# Altium footprint library Molex Footprints.PcbLib: 498 footprints (part 28 of 32)
Each footprint in its own frame and in the unit in brackets; x right, y up, seen from the top. Pads: shape width x height; smd on the part's side, far side on the other; paste and mask are expansions set on the pad; w line width, h text height; cw(c..) or ccw(c..) is an arc to the next point about the centre after c.
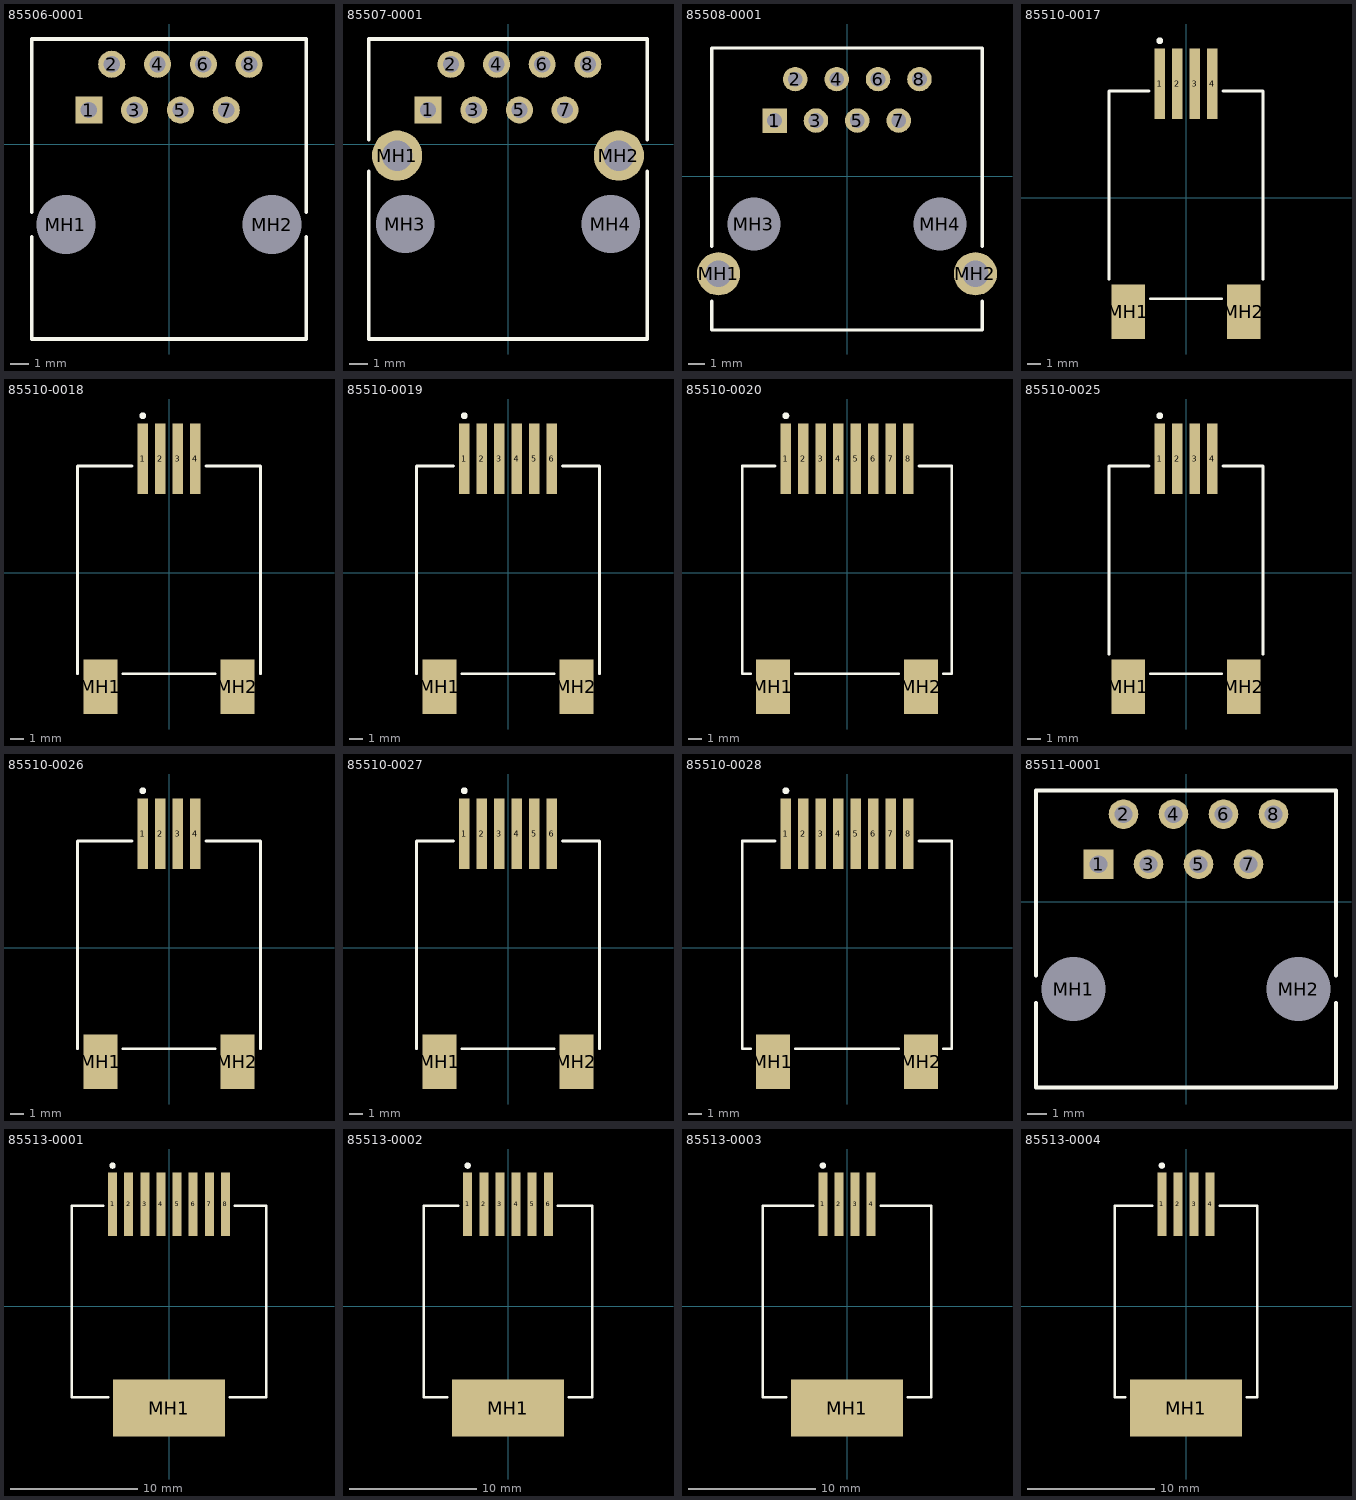
[diagram p27: the footprints below, top view; thin cyan lines are the x and y axes]

## 85506-0001 [mm] "Connector; PCB Jack, Thru-Hole; 1-Port, 8 Positions, 8 Loaded; Unshielded without Lightpipes; Vertical"
height 16.25
pads (10):
  rect 1.5x1.5 hole 0.9: 1(-4.445,1.905)
  round 1.5 hole 0.9: 2(-3.175,4.445) 3(-1.905,1.905) 4(-0.635,4.445) 5(0.635,1.905) 6(1.905,4.445) 7(3.175,1.905) 8(4.445,4.445)
  round 2.95 hole 3.25 unplated: MH1(-5.715,-4.445) MH2(5.715,-4.445)
Top Overlay:
  lines w0.2: -7.62,-5.132 -7.62,-10.795 7.62,-10.795 7.62,-5.132 ; -7.62,-3.758 -7.62,5.845 7.62,5.845 7.62,-3.758

## 85507-0001 [mm] "Connector; PCB Jack, Thru-Hole; 1-Port, 8 Positions, 8 Loaded; Shielded without Lightpipes; Vertical"
height 16.25
pads (12):
  rect 1.5x1.5 hole 0.9: 1(-4.445,1.905)
  round 1.5 hole 0.9: 2(-3.175,4.445) 3(-1.905,1.905) 4(-0.635,4.445) 5(0.635,1.905) 6(1.905,4.445) 7(3.175,1.905) 8(4.445,4.445)
  round 2.8 hole 1.7: MH1(-6.175,-0.635) MH2(6.175,-0.635)
  round 2.95 hole 3.25 unplated: MH3(-5.715,-4.445) MH4(5.715,-4.445)
Top Overlay:
  lines w0.2: -7.75,-1.506 -7.75,-10.845 7.75,-10.845 7.75,-1.506 ; -7.75,0.236 -7.75,5.855 7.75,5.855 7.75,0.236

## 85508-0001 [mm] "Connector; PCB Jack, Thru-Hole; 1-Port, 8 Positions, 8 Loaded; Shielded without Lightpipes; Vertical"
height 16.5
pads (12):
  rect 1.5x1.5 hole 0.9: 1(-4.445,3.43)
  round 1.5 hole 0.9: 2(-3.175,5.97) 3(-1.905,3.43) 4(-0.635,5.97) 5(0.635,3.43) 6(1.905,5.97) 7(3.175,3.43) 8(4.445,5.97)
  round 2.65 hole 1.6: MH1(-7.875,-5.97) MH2(7.875,-5.97)
  round 2.95 hole 3.25 unplated: MH3(-5.715,-2.92) MH4(5.715,-2.92)
Top Overlay:
  lines w0.2: -8.3,-7.642 -8.3,-9.42 8.3,-9.42 8.3,-7.642 ; -8.3,-4.298 -8.3,7.88 8.3,7.88 8.3,-4.298

## 85510-0017 [mm] "Connector; PCB Jack, SM; 1-Port, 4 Positions, 4 Loaded; Unshielded without Lightpipes; Vertical"
height 15.7
pads (6):
  rect 0.76x5.15 smd: 1(-1.905,8.287) 2(-0.635,8.287) 3(0.635,8.287) 4(1.905,8.287)
  rect 2.45x3.95 smd: MH1(-4.2,-8.287) MH2(4.2,-8.287)
Top Overlay:
  circle w0.25: c-1.905,11.412 r0.125
  lines w0.2: -5.6,-5.913 -5.6,7.762 -2.685,7.762 ; -2.575,-7.338 2.575,-7.338 ; 2.685,7.762 5.6,7.762 5.6,-5.913

## 85510-0018 [mm] "Connector; PCB Jack, SM; 1-Port, 6 Positions, 4 Loaded; Unshielded without Lightpipes; Vertical"
height 15.7
pads (6):
  rect 0.76x5.15 smd: 1(-1.905,8.287) 2(-0.635,8.287) 3(0.635,8.287) 4(1.905,8.287)
  rect 2.45x3.95 smd: MH1(-4.975,-8.287) MH2(4.975,-8.287)
Top Overlay:
  circle w0.25: c-1.905,11.412 r0.125
  lines w0.2: -6.65,-7.338 -6.65,7.762 -2.685,7.762 ; -3.35,-7.338 3.35,-7.338 ; 2.685,7.762 6.65,7.762 6.65,-7.338

## 85510-0019 [mm] "Connector; PCB Jack, SM; 1-Port, 6 Positions, 6 Loaded; Unshielded without Lightpipes; Vertical"
height 15.7
pads (8):
  rect 0.76x5.15 smd: 1(-3.175,8.287) 2(-1.905,8.287) 3(-0.635,8.287) 4(0.635,8.287) 5(1.905,8.287) 6(3.175,8.287)
  rect 2.45x3.95 smd: MH1(-4.975,-8.287) MH2(4.975,-8.287)
Top Overlay:
  circle w0.25: c-3.175,11.412 r0.125
  lines w0.2: -6.65,-7.338 -6.65,7.762 -3.955,7.762 ; -3.35,-7.338 3.35,-7.338 ; 3.955,7.762 6.65,7.762 6.65,-7.338

## 85510-0020 [mm] "Connector; PCB Jack, SM; 1-Port, 8 Positions, 8 Loaded; Unshielded without Lightpipes; Vertical"
height 15.7
pads (10):
  rect 0.76x5.15 smd: 1(-4.445,8.287) 2(-3.175,8.287) 3(-1.905,8.287) 4(-0.635,8.287) 5(0.635,8.287) 6(1.905,8.287) 7(3.175,8.287) 8(4.445,8.287)
  rect 2.45x3.95 smd: MH1(-5.385,-8.287) MH2(5.385,-8.287)
Top Overlay:
  circle w0.25: c-4.445,11.412 r0.125
  lines w0.2: -7.01,-7.338 -7.62,-7.338 -7.62,7.762 -5.225,7.762 ; -3.76,-7.338 3.76,-7.338 ; 5.225,7.762 7.62,7.762 7.62,-7.338 7.01,-7.338

## 85510-0025 [mm] "Connector; PCB Jack, SM; 1-Port, 4 Positions, 4 Loaded; Unshielded without Lightpipes; Vertical"
height 15.7
pads (6):
  rect 0.76x5.15 smd: 1(-1.905,8.287) 2(-0.635,8.287) 3(0.635,8.287) 4(1.905,8.287)
  rect 2.45x3.95 smd: MH1(-4.2,-8.287) MH2(4.2,-8.287)
Top Overlay:
  circle w0.25: c-1.905,11.412 r0.125
  lines w0.2: -5.6,-5.913 -5.6,7.762 -2.685,7.762 ; -2.575,-7.338 2.575,-7.338 ; 2.685,7.762 5.6,7.762 5.6,-5.913

## 85510-0026 [mm] "Connector; PCB Jack, SM; 1-Port, 6 Positions, 4 Loaded; Unshielded without Lightpipes; Vertical"
height 15.7
pads (6):
  rect 0.76x5.15 smd: 1(-1.905,8.287) 2(-0.635,8.287) 3(0.635,8.287) 4(1.905,8.287)
  rect 2.45x3.95 smd: MH1(-4.975,-8.287) MH2(4.975,-8.287)
Top Overlay:
  circle w0.25: c-1.905,11.412 r0.125
  lines w0.2: -6.65,-7.338 -6.65,7.762 -2.685,7.762 ; -3.35,-7.338 3.35,-7.338 ; 2.685,7.762 6.65,7.762 6.65,-7.338

## 85510-0027 [mm] "Connector; PCB Jack, SM; 1-Port, 6 Positions, 6 Loaded; Unshielded without Lightpipes; Vertical"
height 15.7
pads (8):
  rect 0.76x5.15 smd: 1(-3.175,8.287) 2(-1.905,8.287) 3(-0.635,8.287) 4(0.635,8.287) 5(1.905,8.287) 6(3.175,8.287)
  rect 2.45x3.95 smd: MH1(-4.975,-8.287) MH2(4.975,-8.287)
Top Overlay:
  circle w0.25: c-3.175,11.412 r0.125
  lines w0.2: -6.65,-7.338 -6.65,7.762 -3.955,7.762 ; -3.35,-7.338 3.35,-7.338 ; 3.955,7.762 6.65,7.762 6.65,-7.338

## 85510-0028 [mm] "Connector; PCB Jack, SM; 1-Port, 8 Positions, 8 Loaded; Unshielded without Lightpipes; Vertical"
height 15.7
pads (10):
  rect 0.76x5.15 smd: 1(-4.445,8.287) 2(-3.175,8.287) 3(-1.905,8.287) 4(-0.635,8.287) 5(0.635,8.287) 6(1.905,8.287) 7(3.175,8.287) 8(4.445,8.287)
  rect 2.45x3.95 smd: MH1(-5.385,-8.287) MH2(5.385,-8.287)
Top Overlay:
  circle w0.25: c-4.445,11.412 r0.125
  lines w0.2: -7.01,-7.338 -7.62,-7.338 -7.62,7.762 -5.225,7.762 ; -3.76,-7.338 3.76,-7.338 ; 5.225,7.762 7.62,7.762 7.62,-7.338 7.01,-7.338

## 85511-0001 [mm] "Connector; PCB Jack, Thru-Hole; 1-Port, 8 Positions, 8 Loaded; Unshielded without Lightpipes; Vertical"
height 15.7
pads (10):
  rect 1.5x1.5 hole 0.9: 1(-4.445,1.905)
  round 1.5 hole 0.9: 2(-3.175,4.445) 3(-1.905,1.905) 4(-0.635,4.445) 5(0.635,1.905) 6(1.905,4.445) 7(3.175,1.905) 8(4.445,4.445)
  round 2.95 hole 3.25 unplated: MH1(-5.715,-4.445) MH2(5.715,-4.445)
Top Overlay:
  lines w0.2: -7.62,-5.132 -7.62,-9.445 7.62,-9.445 7.62,-5.132 ; -7.62,-3.758 -7.62,5.655 7.62,5.655 7.62,-3.758

## 85513-0001 [mm] "Connector; PCB Jack, SM; 1-Port, 8 Positions, 8 Loaded; Unshielded without Lightpipes; Vertical"
height 12.7
pads (9):
  rect 0.7x5 smd: 1(-4.445,8.025) 2(-3.175,8.025) 3(-1.905,8.025) 4(-0.635,8.025) 5(0.635,8.025) 6(1.905,8.025) 7(3.175,8.025) 8(4.445,8.025)
  rect 8.8x4.5 smd: MH1(0,-8.025)
Top Overlay:
  circle w0.25: c-4.445,11.075 r0.125
  lines w0.2: -5.162,7.925 -7.65,7.925 -7.65,-7.175 -4.8,-7.175 ; 4.8,-7.175 7.65,-7.175 7.65,7.925 5.162,7.925

## 85513-0002 [mm] "Connector; PCB Jack, SM; 1-Port, 6 Positions, 6 Loaded; Unshielded without Lightpipes; Vertical"
height 12.7
pads (7):
  rect 0.7x5 smd: 1(-3.175,8.025) 2(-1.905,8.025) 3(-0.635,8.025) 4(0.635,8.025) 5(1.905,8.025) 6(3.175,8.025)
  rect 8.8x4.5 smd: MH1(0,-8.025)
Top Overlay:
  circle w0.25: c-3.175,11.075 r0.125
  lines w0.2: -4.8,-7.175 -6.65,-7.175 -6.65,7.925 -3.925,7.925 ; 3.925,7.925 6.65,7.925 6.65,-7.175 4.8,-7.175

## 85513-0003 [mm] "Connector; PCB Jack, SM; 1-Port, 6 Positions, 4 Loaded; Unshielded without Lightpipes; Vertical"
height 12.7
pads (5):
  rect 0.7x5 smd: 1(-1.905,8.025) 2(-0.635,8.025) 3(0.635,8.025) 4(1.905,8.025)
  rect 8.8x4.5 smd: MH1(0,-8.025)
Top Overlay:
  circle w0.25: c-1.905,11.075 r0.125
  lines w0.2: -4.8,-7.175 -6.65,-7.175 -6.65,7.925 -2.655,7.925 ; 2.655,7.925 6.65,7.925 6.65,-7.175 4.8,-7.175

## 85513-0004 [mm] "Connector; PCB Jack, SM; 1-Port, 4 Positions, 4 Loaded; Unshielded without Lightpipes; Vertical"
height 12.7
pads (5):
  rect 0.7x5 smd: 1(-1.905,8.025) 2(-0.635,8.025) 3(0.635,8.025) 4(1.905,8.025)
  rect 8.8x4.5 smd: MH1(0,-8.025)
Top Overlay:
  circle w0.25: c-1.905,11.075 r0.125
  lines w0.2: -4.8,-7.175 -5.6,-7.175 -5.6,7.925 -2.655,7.925 ; 2.655,7.925 5.6,7.925 5.6,-7.175 4.8,-7.175